# Altium footprint library PCBLib.PcbLib: 19 footprints (part 2 of 2)
Each footprint in its own frame and in the unit in brackets; x right, y up, seen from the top. Pads: shape width x height; smd on the part's side, far side on the other; paste and mask are expansions set on the pad; w line width, h text height; cw(c..) or ccw(c..) is an arc to the next point about the centre after c.
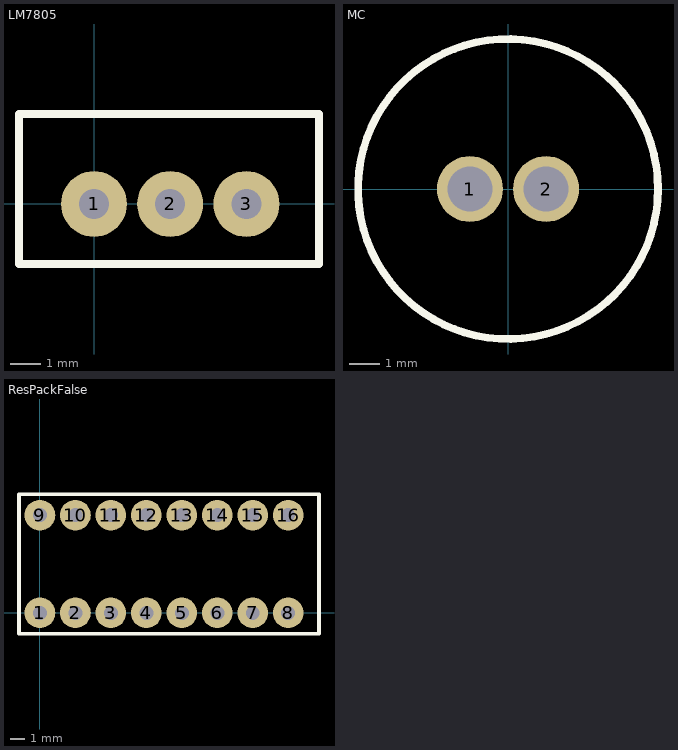
[diagram p1: the footprints below, top view; thin cyan lines are the x and y axes]

## LM7805 [mm]
pads (3):
  round 2.2 hole 1: 1(0,0) 2(2.54,0) 3(5.08,0)
Top Overlay:
  lines w0.254: -2.5,-2 -2.5,3 7.5,3 7.5,-2 -2.5,-2

## MC [mm]
pads (2):
  round 2.2 hole 1.5: 1(-1.27,0) 2(1.27,0)
Top Overlay:
  circle w0.254: c0,0 r5

## ResPackFalse [mm]
pads (16):
  round 2.2 hole 1: 1(0,0) 2(2.54,0) 3(5.08,0) 4(7.62,0) 5(10.16,0) 6(12.7,0) 7(15.24,0) 8(17.78,0) 9(0,7) 10(2.54,7) 11(5.08,7) 12(7.62,7) 13(10.16,7) 14(12.7,7) 15(15.24,7) 16(17.78,7)
Top Overlay:
  lines w0.254: -1.5,-1.5 -1.5,8.5 19.985,8.5 19.985,-1.5 -1.5,-1.5